# Altium footprint library Testpoint_40x25.PcbLib: 1 footprints
Each footprint in its own frame and in the unit in brackets; x right, y up, seen from the top. Pads: shape width x height; smd on the part's side, far side on the other; paste and mask are expansions set on the pad; w line width, h text height; cw(c..) or ccw(c..) is an arc to the next point about the centre after c.
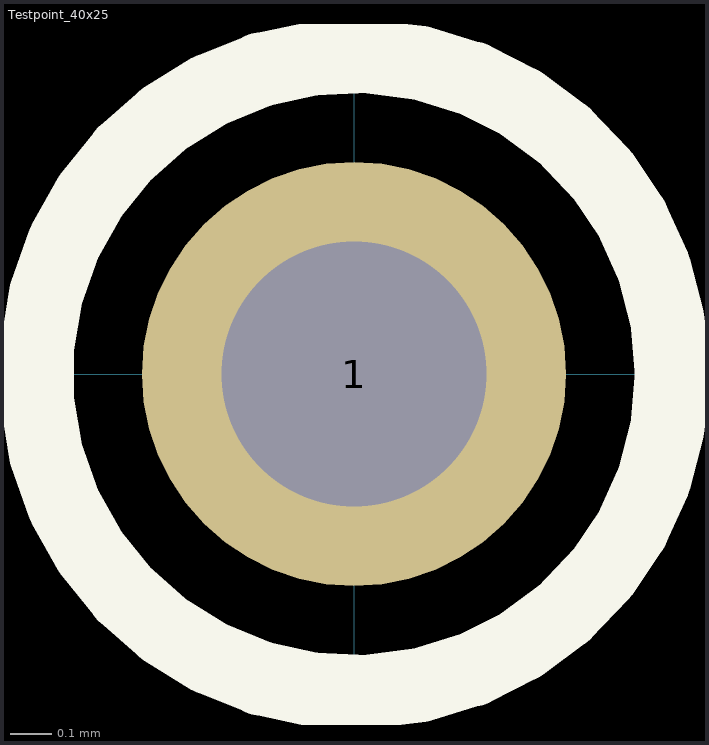
[diagram p0: the footprint, top view; thin cyan lines are the x and y axes]

## Testpoint_40x25 [mil] "For Keystone 500x miniature loop terminals"
height 181.1
pads (1):
  round 40 hole 25: 1(0,0)
Top Overlay:
  circle w7: c0,0 r30
Mechanical 5:
  circle w5: c0,0 r30
  text ".Designator" at 0,0 h30